# Altium footprint library LM5176PWPR(buckconverter).PcbLib: 1 footprints
Each footprint in its own frame and in the unit in brackets; x right, y up, seen from the top. Pads: shape width x height; smd on the part's side, far side on the other; paste and mask are expansions set on the pad; w line width, h text height; cw(c..) or ccw(c..) is an arc to the next point about the centre after c.
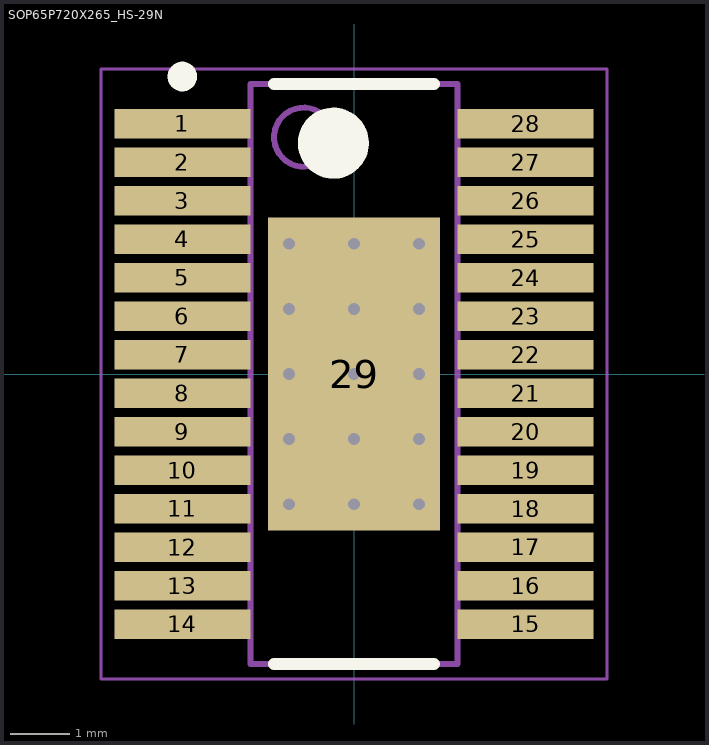
[diagram p0: the footprint, top view; thin cyan lines are the x and y axes]

## SOP65P720X265_HS-29N [mm] "SOP, 28-Leads, Body 9,70x3,40mm, Pitch 0,65mm, Thermal Pad 5,28x2,90mm, IPC Medium Density"
height 2.65
pads (29):
  rect 2.3x0.5 smd mask+0.05: 1(-2.9,4.225) 2(-2.9,3.575) 3(-2.9,2.925) 4(-2.9,2.275) 5(-2.9,1.625) 6(-2.9,0.975) 7(-2.9,0.325) 8(-2.9,-0.325) 9(-2.9,-0.975) 10(-2.9,-1.625) 11(-2.9,-2.275) 12(-2.9,-2.925) 13(-2.9,-3.575) 14(-2.9,-4.225) 15(2.9,-4.225) 16(2.9,-3.575) 17(2.9,-2.925) 18(2.9,-2.275) 19(2.9,-1.625) 20(2.9,-0.975) 21(2.9,-0.325) 22(2.9,0.325) 23(2.9,0.975) 24(2.9,1.625) 25(2.9,2.275) 26(2.9,2.925) 27(2.9,3.575)
  rect 2.3x0.5 smd mask+0.052: 28(2.9,4.225)
  rect 2.9x5.28 smd: 29(0,0)
via 1.1,-2.2 diameter 0.5 hole 0.2
via 0,-2.2 diameter 0.5 hole 0.2
via -1.1,-2.2 diameter 0.5 hole 0.2
via 1.1,-1.1 diameter 0.5 hole 0.2
via 0,-1.1 diameter 0.5 hole 0.2
via -1.1,-1.1 diameter 0.5 hole 0.2
via 1.1,0 diameter 0.5 hole 0.2
via 0,0 diameter 0.5 hole 0.2
via -1.1,0 diameter 0.5 hole 0.2
via 1.1,1.1 diameter 0.5 hole 0.2
via 0,1.1 diameter 0.5 hole 0.2
via -1.1,1.1 diameter 0.5 hole 0.2
via 1.1,2.2 diameter 0.5 hole 0.2
via 0,2.2 diameter 0.5 hole 0.2
via -1.1,2.2 diameter 0.5 hole 0.2
Top Overlay:
  circle w0.6: c-0.35,3.9 r0.3
  circle w0.25: c-2.9,5.025 r0.125
  lines w0.2: -1.35,-4.9 1.35,-4.9 ; -1.35,4.9 1.35,4.9
Mechanical 13:
  circle w0.1: c-0.85,4 r0.5
  lines w0.1: -1.75,-4.9 1.75,-4.9 1.75,4.9 -1.75,4.9 -1.75,-4.9
Mechanical 15:
  lines w0.05: -4.275,-5.15 4.275,-5.15 4.275,5.15 -4.275,5.15 -4.275,-5.15
  lines w0.1: -0.5,0 0.5,0 ; 0,-0.5 0,0.5
3D body: height 2.65, standoff 0.1, extent -1.75,-4.9 1.75,4.9